# Altium footprint library ENS210LQFM.PcbLib: 1 footprints
Each footprint in its own frame and in the unit in brackets; x right, y up, seen from the top. Pads: shape width x height; smd on the part's side, far side on the other; paste and mask are expansions set on the pad; w line width, h text height; cw(c..) or ccw(c..) is an arc to the next point about the centre after c.
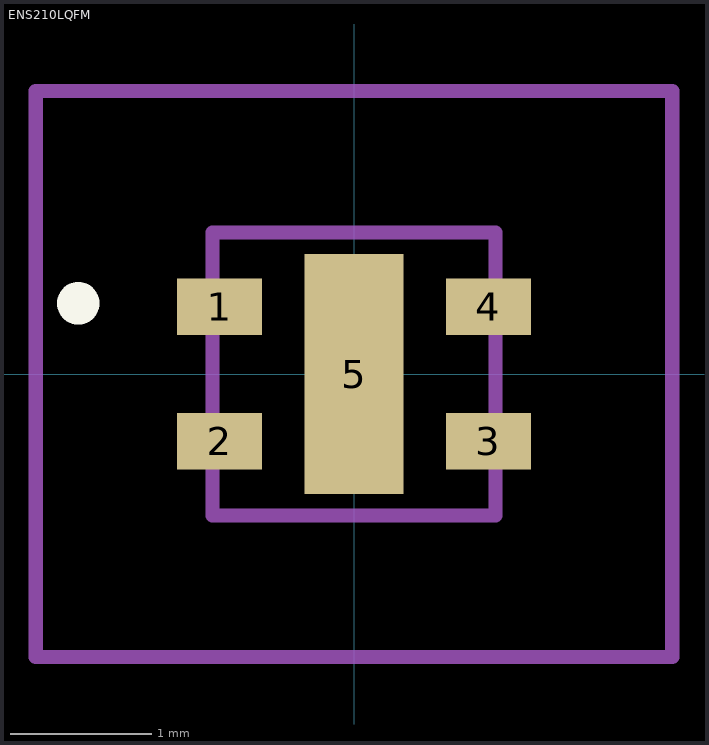
[diagram p0: the footprint, top view; thin cyan lines are the x and y axes]

## ENS210LQFM [mm]
pads (5):
  rect 0.6x0.4 smd: 1(-0.95,0.475) 2(-0.95,-0.475) 3(0.95,-0.475) 4(0.95,0.475)
  rect 0.7x1.7 smd: 5(0,0)
Top Overlay:
  lines w0.2: -2,0.5 -2,0.5 ; -2,0.5 ccw(c-1.95,0.5) -1.9,0.5 ; -2,0.5 cw(c-1.95,0.5) -1.9,0.5 ; -2,0.5 -2,0.5 ; -2,0.5 ccw(c-1.95,0.5) -1.9,0.5 ; -1.9,0.5 -1.9,0.5
Mechanical 15:
  lines w0.1: -1,-1 1,-1 1,1 -1,1 -1,-1
Mechanical 20:
  lines w0.1: -2.25,-2 2.25,-2 2.25,2 -2.25,2 -2.25,-2